# EAGLE library part USB-TYPE-C (library lio)
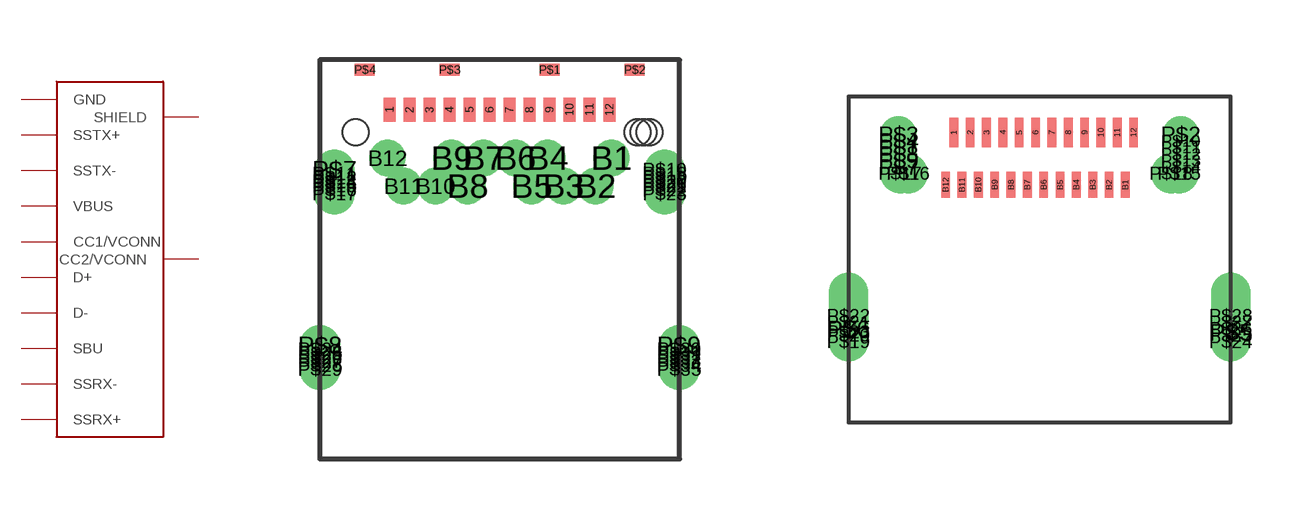
[diagram p12: symbol with the pads of USB-TYPE-C-HYBRID; footprints USB-TYPE-C-HYBRID, USB-TYPE-C-SMT]

Designator prefix -

## USB-TYPE-CHYBRID  [USB-TYPE-C-HYBRID]
1  GND  pwr
2  SSTX+
3  SSTX-
4  VBUS  sup
5  CC1/VCONN
6  D+
7  D-
8  SBU
9  VBUS  sup
10  SSRX-
11  SSRX+
12  GND  pwr
B1  GND  pwr
B2  SSTX+
B3  SSTX-
B4  VBUS  sup
B5  CC2/VCONN
B6  D+
B7  D-
B8  SBU
B9  VBUS  sup
B10  SSRX-
B11  SSRX+
B12  GND  pwr
P$1  SHIELD  nc
P$2  SHIELD  nc
P$3  SHIELD  nc
P$4  SHIELD  nc
P$7  SHIELD  nc
P$8  SHIELD  nc
P$9  SHIELD  nc
P$10  SHIELD  nc
P$11  SHIELD  nc
P$12  SHIELD  nc
P$13  SHIELD  nc
P$14  SHIELD  nc
P$15  SHIELD  nc
P$16  SHIELD  nc
P$17  SHIELD  nc
P$18  SHIELD  nc
P$19  SHIELD  nc
P$20  SHIELD  nc
P$21  SHIELD  nc
P$22  SHIELD  nc
P$23  SHIELD  nc
P$24  SHIELD  nc
P$25  SHIELD  nc
P$26  SHIELD  nc
P$27  SHIELD  nc
P$28  SHIELD  nc
P$29  SHIELD  nc
P$30  SHIELD  nc
P$31  SHIELD  nc
P$32  SHIELD  nc
P$33  SHIELD  nc
P$34  SHIELD  nc
P$35  SHIELD  nc

## USB-TYPE-C  [USB-TYPE-C-SMT]
1  GND  pwr
2  SSTX+
3  SSTX-
4  VBUS  sup
5  CC1/VCONN
6  D+
7  D-
8  SBU
9  VBUS  sup
10  SSRX-
11  SSRX+
12  GND  pwr
B1  GND  pwr
B2  SSTX+
B3  SSTX-
B4  VBUS  sup
B5  CC2/VCONN
B6  D+
B7  D-
B8  SBU
B9  VBUS  sup
B10  SSRX-
B11  SSRX+
B12  GND  pwr
P$1  SHIELD  nc
P$2  SHIELD  nc
P$3  SHIELD  nc
P$4  SHIELD  nc
P$5  SHIELD  nc
P$6  SHIELD  nc
P$7  SHIELD  nc
P$8  SHIELD  nc
P$9  SHIELD  nc
P$10  SHIELD  nc
P$11  SHIELD  nc
P$12  SHIELD  nc
P$13  SHIELD  nc
P$14  SHIELD  nc
P$15  SHIELD  nc
P$16  SHIELD  nc
P$17  SHIELD  nc
P$18  SHIELD  nc
P$19  SHIELD  nc
P$20  SHIELD  nc
P$21  SHIELD  nc
P$22  SHIELD  nc
P$23  SHIELD  nc
P$24  SHIELD  nc
P$25  SHIELD  nc
P$26  SHIELD  nc
P$27  SHIELD  nc
P$28  SHIELD  nc

## Footprint USB-TYPE-C-HYBRID (pad centres in mm)
smd 0.29 x 0.6: 1 -2.75,0.56; 2 -2.25,0.56; 3 -1.75,0.56; 4 -1.25,0.56; 5 -0.75,0.56; 6 -0.25,0.56; 7 0.25,0.56; 8 0.75,0.56; 9 1.25,0.56; 10 1.75,0.56; 11 2.25,0.56; 12 2.75,0.56
drill 0.4 pad 0.59: B1 2.8,-0.65; B2 2.4,-1.35; B3 1.6,-1.35; B4 1.2,-0.65; B5 0.8,-1.35; B6 0.4,-0.65; B7 -0.4,-0.65; B8 -0.8,-1.35; B9 -1.2,-0.65; B10 -1.6,-1.35; B11 -2.4,-1.35; B12 -2.8,-0.65
smd 0.5 x 0.3: P$1 1.25,1.55; P$2 3.38,1.55; P$3 -1.25,1.55; P$4 -3.37,1.55
drill 0.5: P$7 -4.13,-0.95; P$8 -4.49,-5.34; P$9 4.49,-5.34; P$10 4.13,-0.95; P$11 -4.13,-1.05; P$12 -4.13,-1.15; P$13 -4.13,-1.25; P$14 -4.13,-1.25; P$15 -4.13,-1.35; P$16 -4.13,-1.45; P$17 -4.13,-1.55; P$18 4.13,-1.05; P$19 4.13,-1.15; P$20 4.13,-1.25; P$21 4.13,-1.35; P$22 4.13,-1.45; P$23 4.13,-1.55; P$24 -4.49,-5.44; P$25 -4.49,-5.54; P$26 -4.49,-5.64; P$27 -4.49,-5.74; P$28 -4.49,-5.84; P$29 -4.49,-5.94; P$30 4.49,-5.44; P$31 4.49,-5.54; P$32 4.49,-5.64; P$33 4.49,-5.74; P$34 4.49,-5.84; P$35 4.49,-5.94
hole 0.65 at -3.6,0
hole 0.65 at 3.45,0
hole 0.65 at 3.75,0
hole 0.65 at 3.6,0

## Footprint USB-TYPE-C-SMT (pad centres in mm)
smd 0.27 x 0.9: 1 -2.625,0.7; 2 -2.125,0.7; 3 -1.625,0.7; 4 -1.125,0.7; 5 -0.625,0.7; 6 -0.125,0.7; 7 0.375,0.7; 8 0.875,0.7; 9 1.375,0.7; 10 1.875,0.7; 11 2.375,0.7; 12 2.875,0.7
smd 0.27 x 0.8: B1 2.625,-0.9; B2 2.125,-0.9; B3 1.625,-0.9; B4 1.125,-0.9; B5 0.625,-0.9; B6 0.125,-0.9; B7 -0.375,-0.9; B8 -0.875,-0.9; B9 -1.375,-0.9; B10 -1.875,-0.9; B11 -2.375,-0.9; B12 -2.875,-0.9
drill 0.6: P$1 -4.32,0.25; P$2 4.32,0.65; P$3 -4.32,0.65; P$4 -4.32,0.45; P$7 -4.32,-0.35; P$8 -4.32,0.05; P$9 -4.32,-0.15; P$10 4.32,0.45; P$11 4.32,0.25; P$12 4.32,0.05; P$13 4.32,-0.15; P$14 4.32,-0.35
drill 0.7 offset: P$5 5.85,-5.4; P$23 -5.85,-5.4
drill 0.7: P$6 -5.85,-5.3; P$15 4.27,-0.55; P$16 -4.02,-0.55; P$17 -4.27,-0.55; P$18 4.02,-0.55; P$19 -5.85,-5.7; P$20 -5.85,-5.5; P$21 -5.85,-5.1; P$22 -5.85,-4.9; P$24 5.85,-5.7; P$25 5.85,-5.5; P$26 5.85,-5.3; P$27 5.85,-5.1; P$28 5.85,-4.9